# EAGLE library part FGPMMOPA6B (library pepelac)
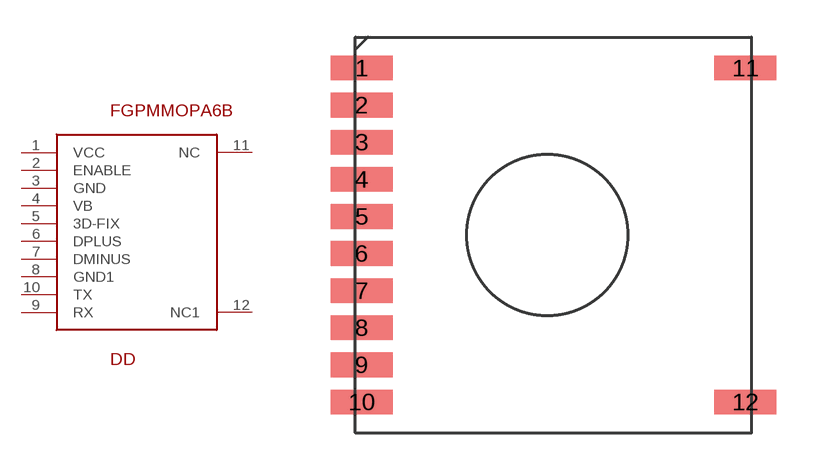
[diagram p5: symbol with the pads of FGPMMOPA6B; footprint FGPMMOPA6B]

Designator prefix DD

## FGPMMOPA6B  [FGPMMOPA6B]
1  VCC
2  ENABLE
3  GND
4  VB
5  3D-FIX
6  DPLUS
7  DMINUS
8  GND1
9  RX
10  TX
11  NC
12  NC1

## Footprint FGPMMOPA6B (pad centres in mm)
smd 2.5 x 1: 1 -7.5,6.75; 2 -7.5,5.25; 3 -7.5,3.75; 4 -7.5,2.25; 5 -7.5,0.75; 6 -7.5,-0.75; 7 -7.5,-2.25; 8 -7.5,-3.75; 9 -7.5,-5.25; 10 -7.5,-6.75; 11 8,6.75; 12 8,-6.75